# Altium footprint library Analog IC Pad Lib.PcbLib: 10 footprints
Each footprint in its own frame and in the unit in brackets; x right, y up, seen from the top. Pads: shape width x height; smd on the part's side, far side on the other; paste and mask are expansions set on the pad; w line width, h text height; cw(c..) or ccw(c..) is an arc to the next point about the centre after c.
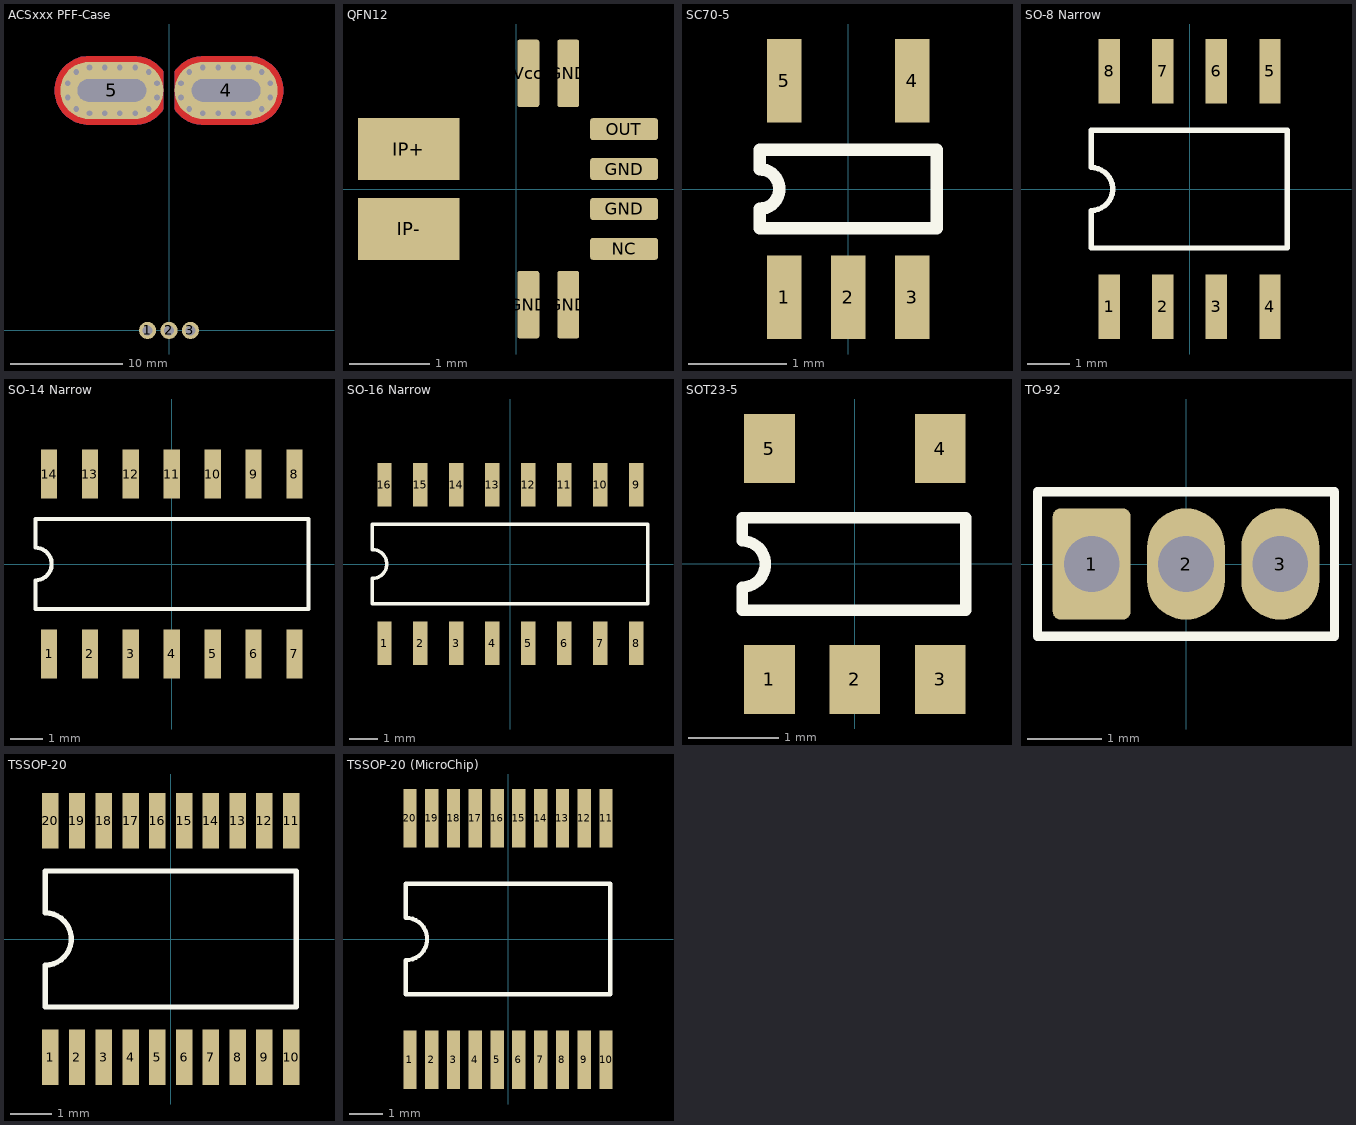
[diagram p0: the footprints below, top view; thin cyan lines are the x and y axes]

## ACSxxx PFF-Case [mil] "Allegro Current Sense IC PFF-Case"
pads (5):
  round 60 hole 35 unplated: 1(-75,0) 2(0,0) 3(75,0)
  oval 360x200 hole 80 slot 240 at 0 deg unplated: 4(200,840) 5(-200,840)
via 41.92,815.28 diameter 30 hole 20
via 70.98,904.72 diameter 30 hole 20
via 354.08,815.28 diameter 30 hole 20
via 41.92,864.72 diameter 30 hole 20
via 325.02,775.28 diameter 30 hole 20
via 278,760 diameter 30 hole 20
via 118,760 diameter 30 hole 20
via 70.98,775.28 diameter 30 hole 20
via 354.08,864.72 diameter 30 hole 20
via 325.02,904.72 diameter 30 hole 20
via 278,920 diameter 30 hole 20
via 118,920 diameter 30 hole 20
via 225,760 diameter 30 hole 20
via 225,920 diameter 30 hole 20
via 172,760 diameter 30 hole 20
via 172,920 diameter 30 hole 20
via -172,760 diameter 30 hole 20
via -172,920 diameter 30 hole 20
via -225,760 diameter 30 hole 20
via -225,920 diameter 30 hole 20
via -118,760 diameter 30 hole 20
via -278,760 diameter 30 hole 20
via -325.02,775.28 diameter 30 hole 20
via -354.08,815.28 diameter 30 hole 20
via -70.98,904.72 diameter 30 hole 20
via -118,920 diameter 30 hole 20
via -278,920 diameter 30 hole 20
via -325.02,904.72 diameter 30 hole 20
via -41.92,815.28 diameter 30 hole 20
via -354.08,864.72 diameter 30 hole 20
via -70.98,775.28 diameter 30 hole 20
via -41.92,864.72 diameter 30 hole 20
Top Layer:
  region: -280,720 -120,719.9 -112.59,719.9 -97.88,721.72 -83.5,725.34 -69.68,730.69 -56.62,737.71 -44.53,746.28 -33.58,756.27 -23.94,767.53 -19.85,773.71 -20,773.71 -20,906.29 -19.85,906.29 -23.94,912.47 -33.58,923.73 -44.53,933.72 -56.62,942.29 -69.68,949.31 -83.5,954.66 -97.88,958.28 -112.59,960.1 -120,960.1 -280,960 -289.44,960 -308.1,957.05 -326.06,951.21 -342.89,942.63 -358.17,931.53 -371.53,918.17 -382.63,902.89 -391.21,886.06 -397.05,868.1 -400,849.44 -400,830.56 -397.05,811.9 -391.21,793.94 -382.63,777.11 -371.53,761.83 -358.17,748.47 -342.89,737.37 -326.06,728.79 -308.1,722.95 -289.44,720
  region: 280,960 120,960.1 112.59,960.1 97.88,958.28 83.5,954.66 69.68,949.31 56.62,942.29 44.53,933.72 33.58,923.73 23.94,912.47 19.85,906.29 20,906.29 20,773.71 19.85,773.71 23.94,767.53 33.58,756.27 44.53,746.28 56.62,737.71 69.68,730.69 83.5,725.34 97.88,721.72 112.59,719.9 120,719.9 280,720 289.44,720 308.1,722.95 326.06,728.79 342.89,737.37 358.17,748.47 371.53,761.83 382.63,777.11 391.21,793.94 397.05,811.9 400,830.56 400,849.44 397.05,868.1 391.21,886.06 382.63,902.89 371.53,918.17 358.17,931.53 342.89,942.63 326.06,951.21 308.1,957.05 289.44,960
Bottom Layer:
  region: 280,960 120,960.1 112.59,960.1 97.88,958.28 83.5,954.66 69.68,949.31 56.62,942.29 44.53,933.72 33.58,923.73 23.94,912.47 19.85,906.29 20,906.29 20,773.71 19.85,773.71 23.94,767.53 33.58,756.27 44.53,746.28 56.62,737.71 69.68,730.69 83.5,725.34 97.88,721.72 112.59,719.9 120,719.9 280,720 289.44,720 308.1,722.95 326.06,728.79 342.89,737.37 358.17,748.47 371.53,761.83 382.63,777.11 391.21,793.94 397.05,811.9 400,830.56 400,849.44 397.05,868.1 391.21,886.06 382.63,902.89 371.53,918.17 358.17,931.53 342.89,942.63 326.06,951.21 308.1,957.05 289.44,960
  region: -280,720 -120,719.9 -112.59,719.9 -97.88,721.72 -83.5,725.34 -69.68,730.69 -56.62,737.71 -44.53,746.28 -33.58,756.27 -23.94,767.53 -19.85,773.71 -20,773.71 -20,906.29 -19.85,906.29 -23.94,912.47 -33.58,923.73 -44.53,933.72 -56.62,942.29 -69.68,949.31 -83.5,954.66 -97.88,958.28 -112.59,960.1 -120,960.1 -280,960 -289.44,960 -308.1,957.05 -326.06,951.21 -342.89,942.63 -358.17,931.53 -371.53,918.17 -382.63,902.89 -391.21,886.06 -397.05,868.1 -400,849.44 -400,830.56 -397.05,811.9 -391.21,793.94 -382.63,777.11 -371.53,761.83 -358.17,748.47 -342.89,737.37 -326.06,728.79 -308.1,722.95 -289.44,720
3D body "ACS7xx-PFF(Allegro).STEP": height 275.8, standoff -137.97, extent -275.59,-24.57 275.59,873.93

## QFN12 [mm] "12-contact QFN  3?3?0.75 mm (ES package)"
pads (10):
  rrect25% 0.275x0.85 smd: GND(0.15,-1.45) GND(0.65,-1.45) GND(0.65,1.45) Vcc(0.15,1.45)
  rrect25% 0.85x0.275 smd: GND(1.35,-0.25) GND(1.35,0.25) NC(1.35,-0.75) OUT(1.35,0.75)
  rect 1.27x0.775 smd: IP+(-1.35,0.5) IP-(-1.35,-0.5)

## SC70-5 [mm] "SC70-5"
pads (5):
  rect 0.35x0.85 smd: 1(-0.65,-1.1) 2(0,-1.1) 3(0.65,-1.1) 4(0.65,1.1) 5(-0.65,1.1)
Top Overlay:
  lines w0.127: -0.9,-0.4 0.9,-0.4 0.9,0.4 -0.9,0.4 -0.9,0.2 cw(c-0.9,0) -0.9,-0.2 -0.9,-0.4
3D body: height 4.34, standoff -0.56, extent 1.219,0 1.219,0
3D body: height 4.34, standoff -0.56, extent 1.219,0 1.219,0
3D body "SOT353 (SC70-5).STEP": height 1, standoff 0, extent -1.05,-1.15 1.05,1.15

## SO-8 Narrow [mil] "SO-8 Narrow"
pads (8):
  rect 20x60 smd: 1(-75,-110) 2(-25,-110) 3(25,-110) 4(75,-110) 5(75,110) 6(25,110) 7(-25,110) 8(-75,110)
Top Overlay:
  lines w5: -91.75,-55 -91.75,-20 ccw(c-91.75,0) -91.75,20 -91.75,55 91,55 91,-55 -91.75,-55
3D body: height 171, standoff -22, extent 0,0 0,0
3D body: height 171, standoff -22, extent 0,0 0,0
3D body "SO-8 Narrow.step": height 57, standoff 0, extent -96.75,-115 96.25,112.49

## SO-14 Narrow [mil] "SO-14 Narrow"
pads (14):
  rect 20x60 smd: 1(-150,-110) 2(-100,-110) 3(-50,-110) 4(0,-110) 5(50,-110) 6(100,-110) 7(150,-110) 8(150,110) 9(100,110) 10(50,110) 11(0,110) 12(-50,110) 13(-100,110) 14(-150,110)
Top Overlay:
  lines w5: -166.75,-55 -166.75,-20 ccw(c-166.75,0) -166.75,20 -166.75,55 167,55 167,-55 -166.75,-55
3D body: height 171, standoff -22, extent -70,0 -70,0
3D body: height 171, standoff -22, extent -70,0 -70,0
3D body "SOIC-14 Narrow.step": height 68.9, standoff 0, extent -172.24,-118.11 172.25,118.11

## SO-16 Narrow [mil] "SO-16 Narrow"
pads (16):
  rect 20x60 smd: 1(-175,-110) 2(-125,-110) 3(-75,-110) 4(-25,-110) 5(25,-110) 6(75,-110) 7(125,-110) 8(175,-110) 9(175,110) 10(125,110) 11(75,110) 12(25,110) 13(-25,110) 14(-75,110) 15(-125,110) 16(-175,110)
Top Overlay:
  lines w5: -191.75,-55 191,-55 191,55 -191.75,55 -191.75,20 cw(c-191.75,0) -191.75,-20 -191.75,-55
3D body: height 171, standoff -22, extent -100,0 -100,0
3D body: height 171, standoff -22, extent -100,0 -100,0
3D body "SOIC-16 Narrow.step": height 68.9, standoff 0, extent -196.85,-118.11 196.85,118.11

## SOT23-5 [mil] "SOT23-5"
pads (5):
  rect 22x30 smd: 1(-37,-50) 2(0,-50) 3(37,-50) 4(37,50) 5(-37,50)
Top Overlay:
  lines w5: -48.75,-20 48,-20 48,20 -48.75,20 -48.75,10 cw(c-48.75,0) -48.75,-10 -48.75,-20
3D body: height 171, standoff -22, extent 48,0 48,0
3D body: height 171, standoff -22, extent 48,0 48,0
3D body "SOT23-5.step": height 57.09, standoff 0, extent -57.08,-55.11 57.09,55.12

## TO-92 [mm] "TO-92"
pads (3):
  rrect20% 1.05x1.5 hole 0.75: 1(-1.27,0)
  oval 1.05x1.5 hole 0.75: 2(0,0) 3(1.27,0)
Top Overlay:
  lines w0.127: -2,-0.975 2,-0.975 2,0.975 -2,0.975 -2,-0.975
3D body: height 2.4, standoff 0.03, extent 0,0 0,0

## TSSOP-20 [mm]
height 1.2
pads (20):
  rect 0.4x1.35 smd: 1(-2.925,-2.875) 2(-2.275,-2.875) 3(-1.625,-2.875) 4(-0.975,-2.875) 5(-0.325,-2.875) 6(0.325,-2.875) 7(0.975,-2.875) 8(1.625,-2.875) 9(2.275,-2.875) 10(2.925,-2.875) 11(2.925,2.875) 12(2.275,2.875) 13(1.625,2.875) 14(0.975,2.875) 15(0.325,2.875) 16(-0.325,2.875) 17(-0.975,2.875) 18(-1.625,2.875) 19(-2.275,2.875) 20(-2.925,2.875)
Top Overlay:
  lines w0.127: -3.048,-1.651 3.048,-1.651 3.048,1.651 -3.048,1.651 -3.048,0.635 cw(c-3.048,0) -3.048,-0.635 -3.048,-1.651
3D body "TSSOP-20.STEP": height 1.1, standoff 0, extent -3.25,-3.21 3.25,3.211

## TSSOP-20 (MicroChip) [mm]
height 1.2
pads (20):
  rect 0.4x1.75 smd: 1(-2.925,-3.6) 2(-2.275,-3.6) 3(-1.625,-3.6) 4(-0.975,-3.6) 5(-0.325,-3.6) 6(0.325,-3.6) 7(0.975,-3.6) 8(1.625,-3.6) 9(2.275,-3.6) 10(2.925,-3.6) 11(2.925,3.6) 12(2.275,3.6) 13(1.625,3.6) 14(0.975,3.6) 15(0.325,3.6) 16(-0.325,3.6) 17(-0.975,3.6) 18(-1.625,3.6) 19(-2.275,3.6) 20(-2.925,3.6)
Top Overlay:
  lines w0.127: -3.048,-1.651 3.048,-1.651 3.048,1.651 -3.048,1.651 -3.048,0.635 cw(c-3.048,0) -3.048,-0.635 -3.048,-1.651
3D body "TSSOP-20.STEP": height 1.1, standoff 0, extent -3.25,-3.21 3.25,3.211